# EAGLE library part SI8640AB-B-IS (library SI8640AB-B-IS)
DGTL ISO 2500VRMS 4CH GP 16SOIC Source: Datasheet <https://www.skyworksinc.com/-/media/Skyworks/SL/documents/public/data-sheets/si86xx-1Mbps-datasheet.pdf>
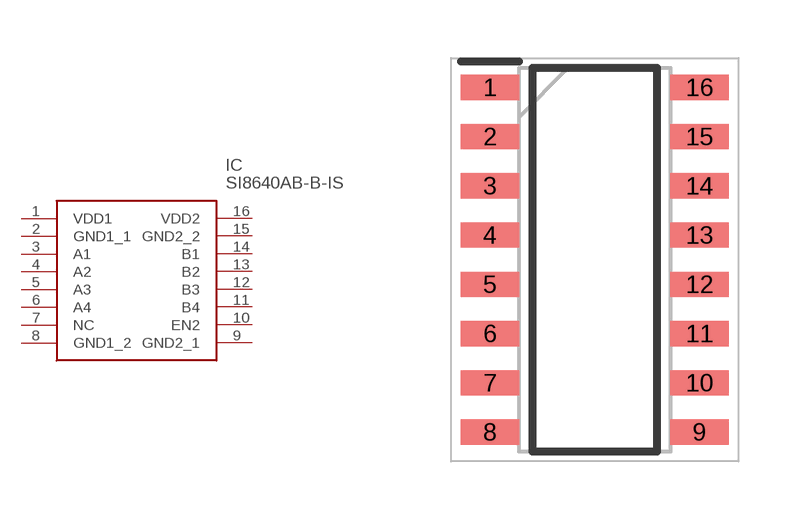
[diagram p0: symbol with the pads of SOIC127P600X175-16N; footprint SOIC127P600X175-16N]

Designator prefix IC

## SI8640AB-B-IS (Description: DGTL ISO 2500VRMS 4CH GP 16SOIC; Height: 1.75mm; Manufacturer_Name: Skyworks; Manufacturer_Part_Number: SI8640AB-B-IS; Mouser_Part_Number: 634-SI8640AB-B-IS; Mouser_Price-Stock: https://www.mouser.co.uk/ProductDetail/Skyworks-Solutions-Inc/SI8640AB-B-IS?qs=j6MGy4L9yX0GpgQO5d7agw%3D%3D)  [SOIC127P600X175-16N]
1  VDD1
2  GND1_1
3  A1
4  A2
5  A3
6  A4
7  NC  nc
8  GND1_2
9  GND2_1
10  EN2
11  B4
12  B3
13  B2
14  B1
15  GND2_2
16  VDD2

## Footprint SOIC127P600X175-16N (pad centres in mm)
SI8640AB-B-IS
smd 1.5 x 0.65: 1 -2.7,4.445; 2 -2.7,3.175; 3 -2.7,1.905; 4 -2.7,0.635; 5 -2.7,-0.635; 6 -2.7,-1.905; 7 -2.7,-3.175; 8 -2.7,-4.445; 9 2.7,-4.445; 10 2.7,-3.175; 11 2.7,-1.905; 12 2.7,-0.635; 13 2.7,0.635; 14 2.7,1.905; 15 2.7,3.175; 16 2.7,4.445